# Altium schematic symbol library EKMC1603112.SchLib: 1 symbol
Pins are listed as number, name and electrical type; pins without a type are passive.

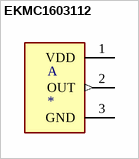
[diagram p0: symbol EKMC1603112]

## EKMC1603112
designator A
Sensor PIR _Passive Infrared_ 472 _12m_ 39.4' Polyethylene, Black Lens; MF: Panasonic Electric; MP: EKMC1603112; Value: *; SnapEDA_Link: https://www.snapeda.com/parts/EKMC1603112/Panasonic%20Electric%20Works/view-part/82446/?ref=snap; Availability: Unavailable; Package: - Panasonic Electric; Price: None
footprint TO254P2200H2020-3
pins: 1 VDD (power), 2 OUT (out), 3 GND (power)